# Altium schematic symbol library LED Schematic Library.SchLib: 3 symbols
Pins are listed as number, name and electrical type; pins without a type are passive.

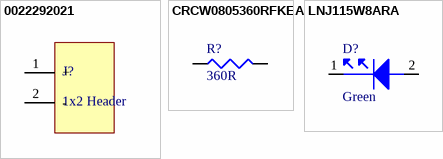
[diagram p0: symbols 0022292021 to LNJ115W8ARA]

## 0022292021
designator J?, comment 1x2 Header
KK 254 Wire-to-Board Header, Vertical, with Friction Lock, 2 Circuits, Gold (Au) Plating; Manufacturer: Molex; Manufacturer Part Number: 0022292021; Supplier 1: Mouser; RoHS: No; Stock 1: 18345; Pricing 1: 1=0.45, 10=0.375, 50=0.375, 100=0.309, 1000=0.262, 10000=0.214 (USD); ComponentLink1URL: https://datasheet.octopart.com/22-29-2021-Molex-datasheet-33002381.pdf?src-supplier=Newark; ComponentLink1Description: https://datasheet.octopart.com/22-29-2021-Molex-datasheet-33002381.pdf?src-supplier=Newark; ComponentLink2URL: https://datasheet.octopart.com/22-29-2021-Molex-datasheet-7277451.pdf?src-supplier=Jameco; ComponentLink2Description: https://datasheet.octopart.com/22-29-2021-Molex-datasheet-7277451.pdf?src-supplier=Jameco; ComponentLink3URL: https://datasheet.octopart.com/22-29-2021-Molex-datasheet-17586671.pdf?src-supplier=TME; ComponentLink3Description: https://datasheet.octopart.com/22-29-2021-Molex-datasheet-17586671.pdf?src-supplier=TME; Supplier Part Number 1: 538-22-29-2021; Category: Connectors
footprint HDR1X2
pins: 1 +, 2 -

## CRCW0805360RFKEA
designator R?, comment 360R
SMD Chip Resistor, 360 Ohm, ± 1%, 125 mW, 0805 [2012 Metric], Thick Film, General Purpose; Manufacturer: Vishay; Manufacturer Part Number: CRCW0805360RFKEA; Supplier 1: Mouser; Supplier Part Number 1: 71-CRCW0805360RFKEA; RoHS: Yes; Stock 1: 13295; Pricing 1: 1=0.1, 10=0.033, 50=0.033, 100=0.015, 1000=0.011, 10000=0.007 (USD); Reach SVHC Compliant: 4187SVHC; ComponentLink1URL: https://datasheet.ciiva.com/2467/dcrcwe3-2467773.pdf?src-supplier=Digikey; ComponentLink1Description: https://datasheet.ciiva.com/2467/dcrcwe3-2467773.pdf?src-supplier=Digikey; Category: Resistors
footprint R0805
pins: 1, 2

## LNJ115W8ARA
designator D?, comment Green
Led Green/orange TSS-2 Type SMD; Manufacturer: Panasonic; Manufacturer Part Number: LNJ115W8ARA; Color: Green,Orange,Yellow; Luminous Intensity: 1mcd; Test Current: 10mA; Lens Style: Rectangular; Dominant Wavelength: 630nm; Forward Voltage: 1.93V; Category1: Optoelectronics; Supplier 1: Digikey; Supplier Part Number 1: P11142CT-ND; RoHS: Yes; Category: LEDs; Stock 1: 23540; Pricing 1: 1=0.48, 10=0.316, 100=0.2264, 500=0.18998, 1000=0.17847 (USD); Mount: Surface Mount; Case/Package: 0605; Number of Pins: 4; Case Code (Metric): 1613; Case Code (Imperial): 0605; Min Operating Temperature: -30°C; Max Operating Temperature: 85°C; Package Quantity: 1; Packaging: Cut Tape; Wavelength: 630nm; Length: 1.6mm; RoHS Compliant: Yes; ComponentLink1URL: https://datasheet.ciiva.com/1246/340491-1246153.pdf?src-supplier=Element14; ComponentLink1Description: https://datasheet.ciiva.com/1246/340491-1246153.pdf?src-supplier=Element14; ComponentLink2URL: https://datasheet.ciiva.com/1249/340491-1249195.pdf?src-supplier=Farnell; ComponentLink2Description: https://datasheet.ciiva.com/1249/340491-1249195.pdf?src-supplier=Farnell; Width: 1.25mm; Height: 0.55mm; Reach SVHC Compliant: Yes; Lead Free: Lead Free
footprint LED1540G
pins: 1, 2